# Altium footprint library SMD1204RGB-B.PcbLib: 1 footprints
Each footprint in its own frame and in the unit in brackets; x right, y up, seen from the top. Pads: shape width x height; smd on the part's side, far side on the other; paste and mask are expansions set on the pad; w line width, h text height; cw(c..) or ccw(c..) is an arc to the next point about the centre after c.
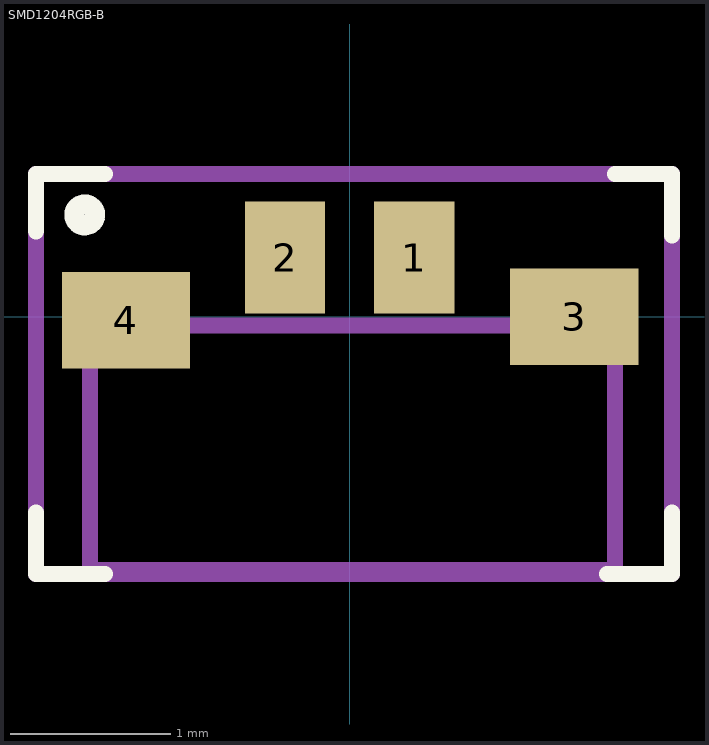
[diagram p0: the footprint, top view; thin cyan lines are the x and y axes]

## SMD1204RGB-B [mm] "Pitch 0.2mm Body 3.2X1mm High 1.5mm"
height 1.5
pads (4):
  rect 0.5x0.7 smd: 1(0.4,0.37) 2(-0.404,0.37)
  rect 0.798x0.6 smd: 3(1.397,0) 4(-1.394,-0.021)
Top Overlay:
  circle w0.125: c-1.651,0.635 r0.065
  lines w0.1: -1.956,-1.219 -1.956,-1.6 -1.524,-1.6 ; -1.956,0.533 -1.956,0.889 -1.524,0.889 ; 1.6,-1.6 2.007,-1.6 2.007,-1.219 ; 1.651,0.889 2.007,0.889 2.007,0.508
Mechanical 13:
  lines w0.1: -1.618,-1.575 1.651,-1.575 1.651,-0.052 -1.618,-0.052 -1.618,-1.575
Mechanical 15:
  lines w0.1: -1.956,-1.6 -1.956,0.889 2.007,0.889 2.007,-1.6 -1.956,-1.6
3D body: height 1, standoff 0, extent -1.086,-1.504 1.118,-0.408
3D body: height 1, standoff 0, extent -1.6,-0.803 1.6,0.013